# EAGLE library part CONN_FFC_1X39_SH_PO070FMTO (library GPLIB_CONN)
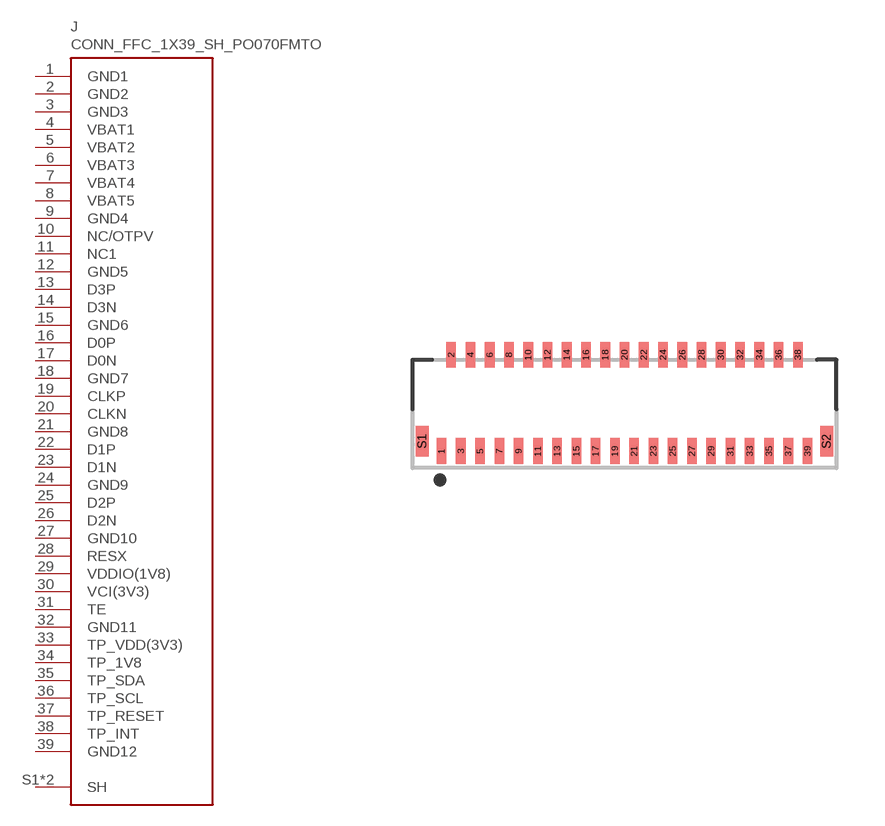
[diagram p22: symbol with the pads of CONN_FFC_1X39_0.3MM_SM_RA_FH26W-39S-0.3SHW(60); footprint CONN_FFC_1X39_0.3MM_SM_RA_FH26W-39S-0.3SHW(60)]

Designator prefix J

## CONN_FFC_1X39_SH_PO070FMTO_0.3MM_SM_RA_FH26W-39S-0.3SHW(60)  [CONN_FFC_1X39_0.3MM_SM_RA_FH26W-39S-0.3SHW(60)]
1  GND1  pwr
2  GND2  pwr
3  GND3  pwr
4  VBAT1  pwr
5  VBAT2  pwr
6  VBAT3  pwr
7  VBAT4  pwr
8  VBAT5  pwr
9  GND4  pwr
10  NC/OTPV  nc
11  NC1  nc
12  GND5  pwr
13  D3P  pas
14  D3N  pas
15  GND6  pwr
16  D0P  pas
17  D0N  pas
18  GND7  pwr
19  CLKP  pas
20  CLKN  pas
21  GND8  pwr
22  D1P  pas
23  D1N  pas
24  GND9  pwr
25  D2P  pas
26  D2N  pas
27  GND10  pwr
28  RESX  pas
29  VDDIO(1V8)  pwr
30  VCI(3V3)  pwr
31  TE  pas
32  GND11  pwr
33  TP_VDD(3V3)  pwr
34  TP_1V8  pwr
35  TP_SDA  pas
36  TP_SCL  pas
37  TP_RESET  pas
38  TP_INT  pas
39  GND12  pas
S1  SH  pas
S2  SH  pas

## CONN_FFC_1X39_SH_PO070FMTO_0.3MM_SM_RA_FH26W-39S-0.3SHW(60)_MIRRORED  [CONN_FFC_1X39_0.3MM_SM_RA_FH26W-39S-0.3SHW(60)]
1  GND12  pas
2  TP_INT  pas
3  TP_RESET  pas
4  TP_SCL  pas
5  TP_SDA  pas
6  TP_1V8  pwr
7  TP_VDD(3V3)  pwr
8  GND11  pwr
9  TE  pas
10  VCI(3V3)  pwr
11  VDDIO(1V8)  pwr
12  RESX  pas
13  GND10  pwr
14  D2N  pas
15  D2P  pas
16  GND9  pwr
17  D1N  pas
18  D1P  pas
19  GND8  pwr
20  CLKN  pas
21  CLKP  pas
22  GND7  pwr
23  D0N  pas
24  D0P  pas
25  GND6  pwr
26  D3N  pas
27  D3P  pas
28  GND5  pwr
29  NC1  nc
30  NC/OTPV  nc
31  GND4  pwr
32  VBAT5  pwr
33  VBAT4  pwr
34  VBAT3  pwr
35  VBAT2  pwr
36  VBAT1  pwr
37  GND3  pwr
38  GND2  pwr
39  GND1  pwr
S1  SH  pas
S2  SH  pas

## Footprint CONN_FFC_1X39_0.3MM_SM_RA_FH26W-39S-0.3SHW(60) (pad centres in mm)
smd 0.3 x 0.8: 1 -5.7,-1.5; 2 -5.4,1.5; 3 -5.1,-1.5; 4 -4.8,1.5; 5 -4.5,-1.5; 6 -4.2,1.5; 7 -3.9,-1.5; 8 -3.6,1.5; 9 -3.3,-1.5; 10 -3,1.5; 11 -2.7,-1.5; 12 -2.4,1.5; 13 -2.1,-1.5; 14 -1.8,1.5; 15 -1.5,-1.5; 16 -1.2,1.5; 17 -0.9,-1.5; 18 -0.6,1.5; 19 -0.3,-1.5; 20 0,1.5; 21 0.3,-1.5; 22 0.6,1.5; 23 0.9,-1.5; 24 1.2,1.5; 25 1.5,-1.5; 26 1.8,1.5; 27 2.1,-1.5; 28 2.4,1.5; 29 2.7,-1.5; 30 3,1.5; 31 3.3,-1.5; 32 3.6,1.5; 33 3.9,-1.5; 34 4.2,1.5; 35 4.5,-1.5; 36 4.8,1.5; 37 5.1,-1.5; 38 5.4,1.5; 39 5.7,-1.5
smd 0.4 x 0.95: S1 -6.3,-1.196; S2 6.3,-1.196